# Altium footprint library KUSBVLPXHT-AS1N-O30-HRF.PcbLib: 1 footprints
Each footprint in its own frame and in the unit in brackets; x right, y up, seen from the top. Pads: shape width x height; smd on the part's side, far side on the other; paste and mask are expansions set on the pad; w line width, h text height; cw(c..) or ccw(c..) is an arc to the next point about the centre after c.
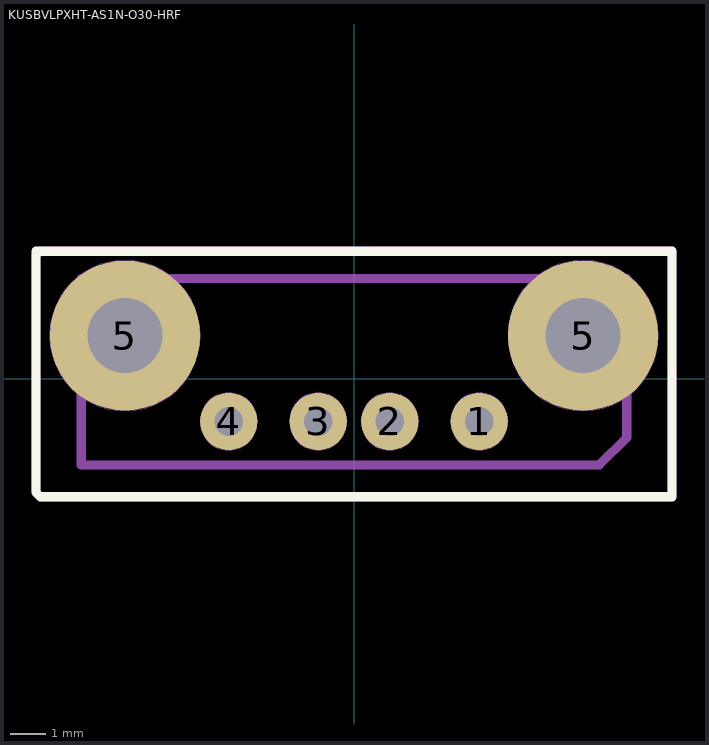
[diagram p0: the footprint, top view; thin cyan lines are the x and y axes]

## KUSBVLPXHT-AS1N-O30-HRF [mm]
pads (6):
  round 1.6 hole 0.8: 1(3.5,-1.2) 2(1,-1.2) 3(-1,-1.2) 4(-3.5,-1.2)
  round 4.2 hole 2.1: 5(-6.4,1.2) 5(6.4,1.2)
Top Overlay:
  lines w0.254: -8.89,-3.175 -8.89,3.556 8.89,3.556 8.89,-3.302 -8.763,-3.302 -8.89,-3.175
Mechanical 3:
  lines w0.254: -7.62,-2.413 6.858,-2.413 7.62,-1.651 7.62,2.794 -7.62,2.794 -7.62,-2.413
Mechanical 5:
  circle w0.01: c3.5,-1.2 r0.8
  circle w0.01: c1,-1.2 r0.8
  circle w0.01: c-1,-1.2 r0.8
  circle w0.01: c-3.5,-1.2 r0.8
  circle w0.01: c6.4,1.2 r2.1
  circle w0.01: c-6.4,1.2 r2.1
Mechanical 7:
  lines w0.254: -8.89,-3.175 -8.89,3.429 -8.763,3.556 -6.35,3.556 6.223,3.556 8.89,3.556 8.89,1.27 8.89,-3.302 -8.763,-3.302 -8.89,-3.175
Mechanical 9:
  text "'.Designator'" at -5.969,0.254 h1
3D body "KUSBVLPXHT-AS1N-O30-HRF_A_1630159734.214.step": height 10.01, standoff -3.59, extent -6.55,-3.048 6.55,2.672
3D body "KUSBVLPXHT-AS1N-O30-HRF_A_1630159734.214.step": height 2.86, standoff -2.86, extent -6.55,-13.473 6.55,0.127
3D body: height 1, standoff 0, extent -8.89,-3.302 8.89,3.556